# EAGLE library part AD7997BRUZ (library KylePile)
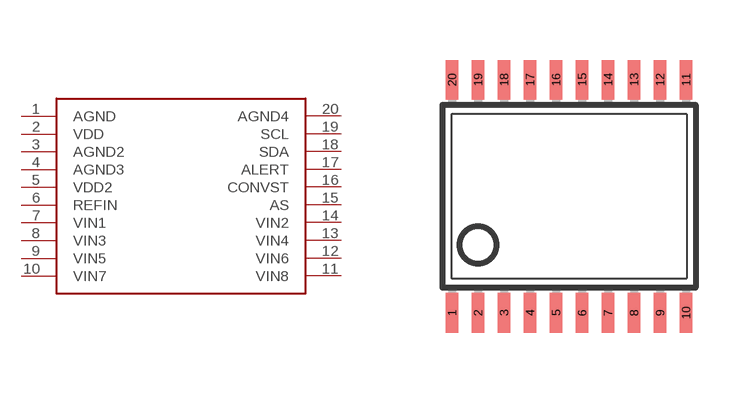
[diagram p4: symbol with the pads of TSSOP20; footprint TSSOP20]

Designator prefix -

## AD7997BRUZ  [TSSOP20]
1  AGND
2  VDD
3  AGND2
4  AGND3
5  VDD2
6  REFIN
7  VIN1
8  VIN3
9  VIN5
10  VIN7
11  VIN8
12  VIN6
13  VIN4
14  VIN2
15  AS
16  CONVST
17  ALERT
18  SDA
19  SCL
20  AGND4

## Footprint TSSOP20 (pad centres in mm)
Thin Shrink Small Outline Plastic 20 MAX3223-MAX3243.pdf
smd 0.305 x 0.991: 1 -2.925,-2.918; 2 -2.275,-2.918; 3 -1.625,-2.918; 4 -0.975,-2.918; 5 -0.325,-2.918; 6 0.325,-2.918; 7 0.975,-2.918; 8 1.625,-2.918; 9 2.275,-2.918; 10 2.925,-2.918; 11 2.925,2.918; 12 2.275,2.918; 13 1.625,2.918; 14 0.975,2.918; 15 0.325,2.918; 16 -0.325,2.918; 17 -0.975,2.918; 18 -1.625,2.918; 19 -2.275,2.918; 20 -2.925,2.918